# Altium footprint library PcbLib.PcbLib: 7 footprints
Each footprint in its own frame and in the unit in brackets; x right, y up, seen from the top. Pads: shape width x height; smd on the part's side, far side on the other; paste and mask are expansions set on the pad; w line width, h text height; cw(c..) or ccw(c..) is an arc to the next point about the centre after c.
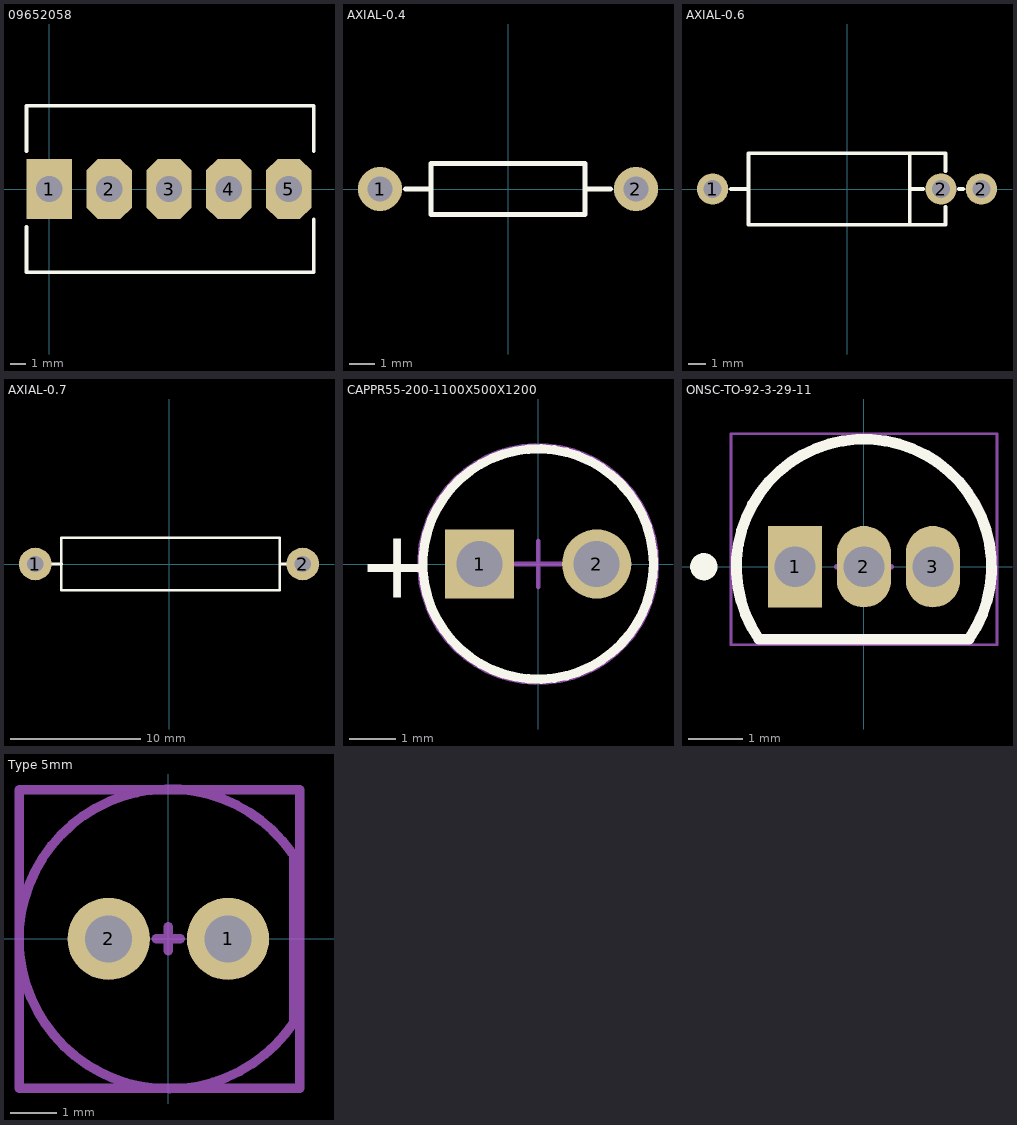
[diagram p0: the footprints below, top view; thin cyan lines are the x and y axes]

## 09652058 [mm] "SPOX and KK 396 Wire-to-Board Header, Vertical, with Friction Lock, 5 Circuits"
height 10.8
pads (5):
  rect 3x4 hole 1.75 unplated: 1(0,0)
  oct 3x4 hole 1.75 unplated: 2(3.96,0) 3(7.92,0) 4(11.88,0) 5(15.84,0)
Top Overlay:
  lines w0.25: -1.5,-2.5 -1.5,-5.5 17.5,-5.5 17.5,-2 ; -1.5,2.5 -1.5,5.5 17.5,5.5 17.5,2.5
3D body "9652058.stp": height 13.85, standoff -3.6, extent -1.52,-5.6 17.52,5.15

## AXIAL-0.4 [mm] "Axial Device, Thru-Hole; 2 Leads; 0.4 in Pin Spacing"
height 2.032
pads (2):
  round 1.75 hole 1: 1(-5.08,0) 2(5.08,0)
Top Overlay:
  lines w0.2: -4.064,0 -3.048,0 ; 3.048,0 4.064,0 ; -3.048,-1.016 3.048,-1.016 3.048,1.016 -3.048,1.016 -3.048,-1.016
3D body "RESISTOR, 0_25 W, 0_4 IN LEAD PITCH.step": height 3.93, standoff -1.54, extent -5.385,-1.156 5.385,1.156

## AXIAL-0.6 [mm] "Axial Device, Thru-Hole; 2 Leads; 0.4 in Pin Spacing"
height 2.032
pads (3):
  round 1.75 hole 1: 1(-7.5,0) 2(5.25,0) 2(7.5,0)
Top Overlay:
  lines w0.2: -6.5,0 -5.484,0 ; 3.5,-2 3.5,0 ; 3.5,2 3.5,0 ; 4.25,0 3.5,0 ; 5.5,-1 5.5,-2 -5.5,-2 -5.5,2 5.5,2 5.5,1 ; 6.25,0 6.5,0
3D body "RES-1_5W.STEP": height 4.5, standoff -2, extent -7.77,-1.75 5.47,1.75

## AXIAL-0.7 [mm] "Axial Device, Thru-Hole; 2 Leads; 0.7 in Pin Spacing"
height 2.2
pads (2):
  round 2.5 hole 1.25: 1(-10.25,0) 2(10.25,0)
Top Overlay:
  lines w0.2: -9.25,0 -8.234,0 ; 9.25,0 8.5,0 ; 8.5,0 8.5,-2 -8.25,-2 -8.25,2 8.5,2 8.5,0
3D body "FMP300-Jx-73-10R.STEP": height 7.5, standoff -1.58, extent -10.56,-2.5 10.56,2.5

## CAPPR55-200-1100X500X1200 [mm] "THD, 2-Leads, Dia 5mm, Body Length 11mm"
height 12
pads (2):
  rect 1.5x1.5 hole 1: 1(-1.27,0)
  round 1.5 hole 1: 2(1.27,0)
Top Overlay:
  circle w0.2: c0,0 r2.5
  text "+" at -3.908,-0.737 h1.5
Top 3D Body:
  circle w0.1: c0,0 r2.5
Top Courtyard:
  circle w0.05: c0,0 r2.6
  lines w0.1: -0.5,0 0.5,0 ; 0,-0.5 0,0.5
3D body "Capacitor 10uF 50V 7x5mm.STEP": height 7.74, standoff -2.32, extent -2.53,-2.505 2.5,2.505

## ONSC-TO-92-3-29-11 [mm] "TO, 3-Leads, Body Dia 4.7mm, Pitch 1.27mm"
height 7.87
pads (3):
  rect 1x1.5 hole 0.75: 1(-1.27,0)
  oval 1x1.5 hole 0.75: 2(0,0) 3(1.27,0)
Top Overlay:
  circle w0.25: c-2.95,0 r0.125
  lines w0.2: -1.934,-1.335 cw(c0,0) 1.934,-1.335 -1.934,-1.335
Top 3D Body:
  lines w0.1: -1.934,-1.335 cw(c0,0) 1.934,-1.335 -1.934,-1.335
Top Courtyard:
  lines w0.05: -2.45,-1.435 2.45,-1.435 2.45,2.45 -2.45,2.45 -2.45,-1.435
  lines w0.1: -0.5,0 0.5,0 ; 0,-0.5 0,0.5
3D body "TO-92A.step": height 9, standoff -2, extent -2.4,-1.53 2.4,2.4

## Type 5mm [mm] "THT, LED-5mm, 2pin- Body 5.8mm"
height 12.1
pads (2):
  round 1.75 hole 1: 1(1.27,0) 2(-1.27,0)
Bottom Overlay:
  lines w0.2: -2.47,-1.52 ccw(c0,0) 2.228,-1.857 ; -2.369,-1.672 cw(c0,0) 2.239,1.844 ; 2.286,-1.778 2.286,1.778
  text "K" at 3.048,0.381 h0.76
Bottom Courtyard:
  lines w0.2: -0.254,0 0.254,0 ; 0,-0.254 0,0.254 ; 2.616,1.846 ccw(c0.014,-0.003) 2.667,-1.778 2.667,1.778
  text "K" at 3.048,0.381 h0.76
  text ".Designator" at 0,0 h0.76
Bottom 3D Body:
  lines w0.2: -3.175,-3.175 -3.175,3.175 2.794,3.175 2.794,-3.175 -3.175,-3.175
3D body "WL-TMRW_5mm.stp": height 23.6, standoff -11.4, extent -2.9,-2.9 2.5,2.899